# EAGLE library part CP2102N (library Semiconductors > Integrated Circuits - ICs > Interface ICs > USB Interface IC)
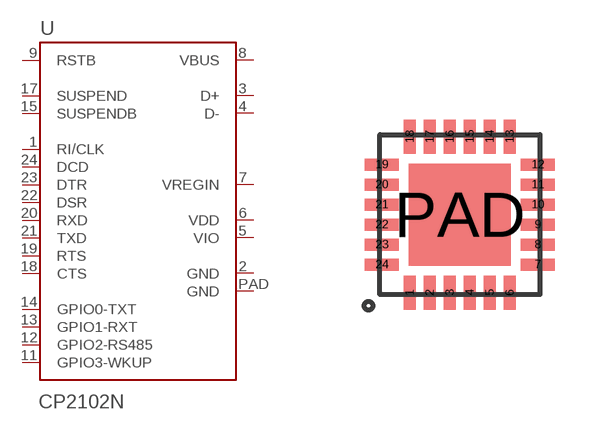
[diagram p2: symbol with the pads of QFN24; footprint QFN24]

Designator prefix U

## CP2102N  [QFN24]
1  RI/CLK
2  GND
3  D+
4  D-
5  VIO
6  VDD
7  VREGIN
8  VBUS
9  RSTB
11  GPIO3-WKUP
12  GPIO2-RS485
13  GPIO1-RXT
14  GPIO0-TXT
15  SUSPENDB
17  SUSPEND
18  CTS
19  RTS
20  RXD
21  TXD
22  DSR
23  DTR
24  DCD
PAD  GND

## Footprint QFN24 (pad centres in mm)
smd 0.3 x 0.85: 1 -1.25,-1.95; 2 -0.75,-1.95; 3 -0.25,-1.95; 4 0.25,-1.95; 5 0.75,-1.95; 6 1.25,-1.95; 13 1.25,1.95; 14 0.75,1.95; 15 0.25,1.95; 16 -0.25,1.95; 17 -0.75,1.95; 18 -1.25,1.95
smd 0.85 x 0.3: 7 1.95,-1.25; 8 1.95,-0.75; 9 1.95,-0.25; 10 1.95,0.25; 11 1.95,0.75; 12 1.95,1.25; 19 -1.95,1.25; 20 -1.95,0.75; 21 -1.95,0.25; 22 -1.95,-0.25; 23 -1.95,-0.75; 24 -1.95,-1.25
smd 2.55 x 2.55: PAD 0,0